# Altium footprint library DANCE_LIB_REV2.PcbLib: 146 footprints (part 7 of 10)
Each footprint in its own frame and in the unit in brackets; x right, y up, seen from the top. Pads: shape width x height; smd on the part's side, far side on the other; paste and mask are expansions set on the pad; w line width, h text height; cw(c..) or ccw(c..) is an arc to the next point about the centre after c.
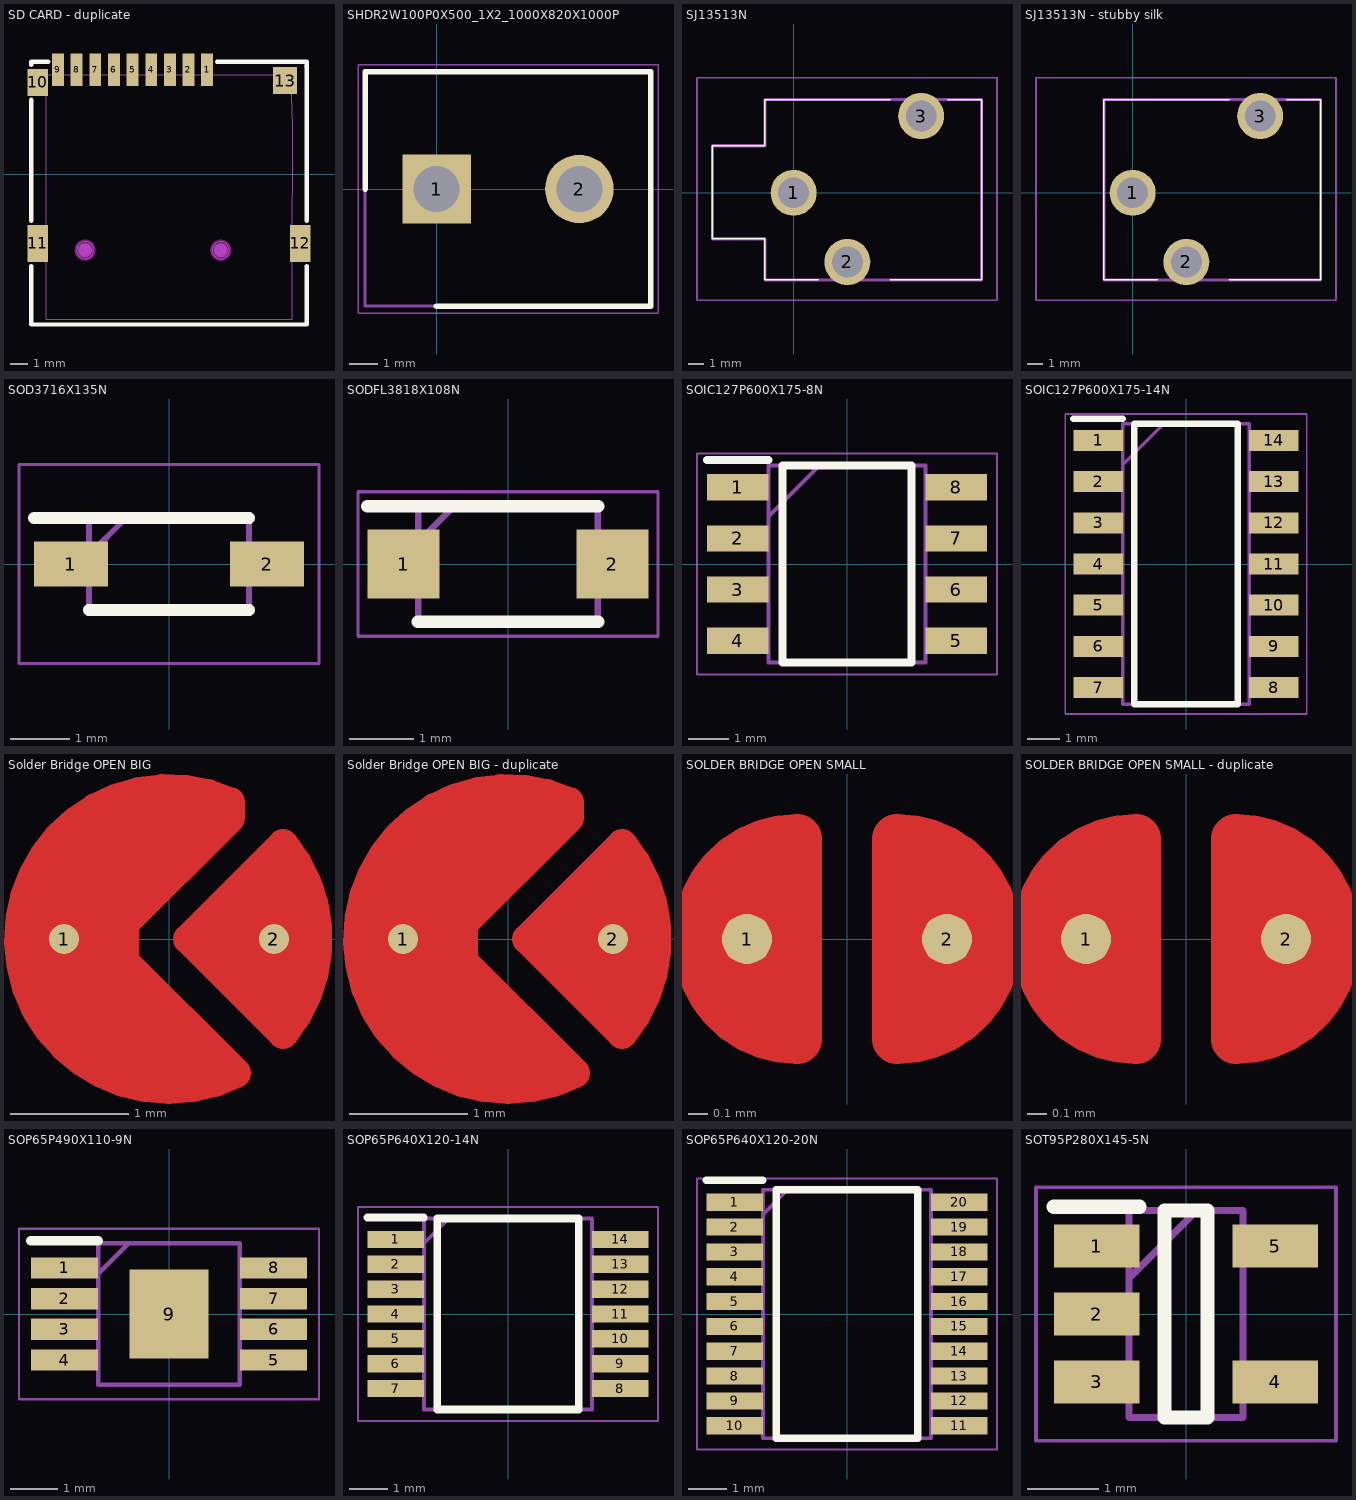
[diagram p6: the footprints below, top view; thin cyan lines are the x and y axes]

## SD CARD - duplicate [mm]
pads (13):
  rect 0.7x1.9 smd: 1(-9.058,6.163) 2(-10.158,6.163) 3(-11.258,6.163) 4(-12.358,6.163) 5(-13.458,6.163) 6(-14.558,6.163) 7(-15.658,6.163) 8(-16.758,6.163) 9(-17.858,6.163)
  rect 1.2x1.6 smd: 10(-19.058,5.413)
  rect 1.2x2.2 smd: 11(-19.058,-4.087) 12(-3.558,-4.087)
  rect 1.4x1.6 smd: 13(-4.458,5.513)
Top Overlay:
  lines w0.254: -19.436,-5.418 -19.436,-8.868 -3.18,-8.868 -3.18,-5.418 ; -19.436,-2.756 -19.436,4.382 ; -19.436,6.444 -19.436,6.626 -18.439,6.626 ; -8.477,6.626 -3.18,6.626 -3.18,-2.756
Keep-Out Layer:
  board cut-out: -15.758,-4.487 -15.759,-4.388 -15.836,-4.207 -15.977,-4.068 -16.159,-3.993 -16.357,-3.993 -16.539,-4.068 -16.679,-4.207 -16.757,-4.388 -16.758,-4.487 -16.757,-4.586 -16.679,-4.767 -16.539,-4.906 -16.356,-4.981 -16.159,-4.981 -15.977,-4.906 -15.836,-4.767 -15.759,-4.586
  board cut-out: -7.758,-4.489 -7.759,-4.391 -7.836,-4.209 -7.977,-4.071 -8.159,-3.996 -8.357,-3.996 -8.539,-4.071 -8.679,-4.209 -8.757,-4.391 -8.758,-4.49 -8.757,-4.588 -8.679,-4.77 -8.539,-4.908 -8.356,-4.983 -8.159,-4.983 -7.977,-4.908 -7.836,-4.77 -7.759,-4.588
Keep-Out Layer:
  circle w0.025: c-16.258,-4.487 r0.5
  circle w0.254: c-16.258,-4.487 r0.5
  circle w0.025: c-8.258,-4.489 r0.5
  circle w0.254: c-8.258,-4.489 r0.5
Mechanical 1:
  circle w0.025: c-16.258,-4.487 r0.5
  circle w0.025: c-8.258,-4.489 r0.5
Mechanical 6:
  circle w0.4: c-16.258,-4.487 r0.2
  circle w0.4: c-8.258,-4.489 r0.2
Mechanical 15:
  region: -3.198,6.349 -3.198,6.374 -3.233,6.409 -3.283,6.409 -3.318,6.374 -3.318,6.349 -3.318,6.325 -3.283,6.289 -3.233,6.289 -3.198,6.325
  region: -18.008,6.35 -17.708,6.35 -17.708,5.85 -18.008,5.85
  region: -16.908,6.35 -16.608,6.35 -16.608,5.85 -16.908,5.85
  region: -15.808,6.35 -15.508,6.35 -15.508,5.85 -15.808,5.85
  region: -14.708,6.35 -14.408,6.35 -14.408,5.85 -14.708,5.85
  region: -13.608,6.35 -13.308,6.35 -13.308,5.85 -13.608,5.85
  region: -12.508,6.35 -12.208,6.35 -12.208,5.85 -12.508,5.85
  region: -11.408,6.35 -11.108,6.35 -11.108,5.85 -11.408,5.85
  region: -10.308,6.35 -10.008,6.35 -10.008,5.85 -10.308,5.85
  region: -9.208,6.35 -8.908,6.35 -8.908,5.85 -9.208,5.85
  region: -19.394,-3.487 -18.544,-3.487 -18.544,-4.687 -19.394,-4.687
  region: -4.108,-3.462 -3.258,-3.462 -3.258,-4.662 -4.108,-4.662
  region: -19.394,5.913 -18.544,5.913 -18.544,4.913 -19.394,4.913
  region: -4.033,6.013 -4.033,5.013 -4.883,5.013 -4.883,6.013
  lines w0.051: -18.547,-8.561 -18.547,5.864 -11.208,5.864 -7.539,5.864 -4.047,5.864 -4.057,4.178 -4.041,2.366 -4.034,-1.234 -4.047,-8.561 -18.547,-8.561

## SHDR2W100P0X500_1X2_1000X820X1000P [mm]
pads (2):
  rect 2.4x2.4 hole 1.6: 1(0,0)
  round 2.4 hole 1.6: 2(5,0)
Top Overlay:
  lines w0.2: -2.5,0 -2.5,4.1 7.5,4.1 7.5,-4.1 0,-4.1
Mechanical 13:
  lines w0.1: -2.5,-4.1 7.5,-4.1 7.5,4.1 -2.5,4.1 -2.5,-4.1
Mechanical 15:
  lines w0.05: -2.75,-4.35 7.75,-4.35 7.75,4.35 -2.75,4.35 -2.75,-4.35
3D body "1546216-2.stp": height 9.91, standoff -3.59, extent -2.97,-4.1 7.63,4.1

## SJ13513N [mm]
pads (3):
  round 3 hole 2: 1(0,0) 2(3.5,-4.5) 3(8.3,5)
Top Overlay:
  lines w0.1: 1.606,-5.671 -1.867,-5.671 -1.867,-2.987 -5.288,-2.987 -5.288,3.065 -1.867,3.065 -1.867,6.065 6.29,6.065 ; 6.29,-5.671 12.237,-5.671 12.237,6.065 10.027,6.065
Mechanical 13:
  lines w0.2: -5.288,-2.987 -5.288,3.065 -1.867,3.065 -1.867,6.065 12.237,6.065 12.237,-5.671 -1.867,-5.671 -1.867,-2.987 -5.288,-2.987
Mechanical 15:
  lines w0.1: -6.288,-7 -6.288,7.5 13.237,7.5 13.237,-7 -6.288,-7
3D body "SJ1-3513N.stp": height 5.99, standoff -3.01, extent -5.28,-5.5 12.22,6

## SJ13513N - stubby silk [mm]
pads (3):
  round 3 hole 2: 1(0,0) 2(3.5,-4.5) 3(8.3,5)
Top Overlay:
  lines w0.1: 1.606,-5.671 -1.867,-5.671 -1.867,-2.987 -1.867,3.065 -1.867,6.065 6.29,6.065 ; 6.29,-5.671 12.237,-5.671 12.237,6.065 10.027,6.065
Mechanical 13:
  lines w0.2: -1.867,-5.671 12.237,-5.671 12.237,6.065 -1.867,6.065 -1.867,3.065 -1.867,-2.987 -1.867,-5.671
Mechanical 15:
  lines w0.1: -6.288,-7 -6.288,7.5 13.237,7.5 13.237,-7 -6.288,-7
3D body "SJ1-3513N.stp": height 5.99, standoff -3.01, extent -5.28,-5.5 12.22,6

## SOD3716X135N [mm]
pads (2):
  rect 1.25x0.75 smd: 1(-1.65,0) 2(1.65,0)
Top Overlay:
  lines w0.2: -2.275,0.775 1.35,0.775 ; -1.35,-0.775 1.35,-0.775
Mechanical 13:
  lines w0.1: -1.35,0.15 -0.725,0.775 ; -1.35,-0.775 -1.35,0.775 1.35,0.775 1.35,-0.775 -1.35,-0.775
Mechanical 15:
  lines w0.05: -2.525,-1.675 -2.525,1.675 2.525,1.675 2.525,-1.675 -2.525,-1.675
3D body "1N4148W-E3-08.stp": height 1.35, standoff 0, extent -1.85,-0.775 1.85,0.775

## SODFL3818X108N [mm]
pads (2):
  rect 1.12x1.08 smd: 1(-1.625,0) 2(1.625,0)
Top Overlay:
  lines w0.2: -2.185,0.9 1.4,0.9 ; -1.4,-0.9 1.4,-0.9
Mechanical 13:
  lines w0.1: -1.4,0.34 -0.84,0.9 ; -1.4,-0.9 -1.4,0.9 1.4,0.9 1.4,-0.9 -1.4,-0.9
Mechanical 15:
  lines w0.05: -2.335,-1.125 -2.335,1.125 2.335,1.125 2.335,-1.125 -2.335,-1.125
3D body "CMMSH1-40G_TR_PBFREE.stp": height 1.08, standoff 0, extent -1.875,-0.9 1.875,0.9

## SOIC127P600X175-8N [mm]
pads (8):
  rect 1.525x0.65 smd: 1(-2.712,1.905) 2(-2.712,0.635) 3(-2.712,-0.635) 4(-2.712,-1.905) 5(2.712,-1.905) 6(2.712,-0.635) 7(2.712,0.635) 8(2.712,1.905)
Top Overlay:
  lines w0.2: -3.475,2.58 -1.95,2.58 ; -1.6,-2.45 1.6,-2.45 1.6,2.45 -1.6,2.45 -1.6,-2.45
Mechanical 13:
  lines w0.1: -1.95,1.18 -0.68,2.45 ; -1.95,-2.45 1.95,-2.45 1.95,2.45 -1.95,2.45 -1.95,-2.45
Mechanical 15:
  lines w0.05: -3.725,-2.75 3.725,-2.75 3.725,2.75 -3.725,2.75 -3.725,-2.75
3D body "NE555DR.stp": height 1.75, standoff 0, extent -3,-2.45 3,2.45

## SOIC127P600X175-14N [mm]
pads (14):
  rect 1.525x0.65 smd: 1(-2.712,3.81) 2(-2.712,2.54) 3(-2.712,1.27) 4(-2.712,0) 5(-2.712,-1.27) 6(-2.712,-2.54) 7(-2.712,-3.81) 8(2.712,-3.81) 9(2.712,-2.54) 10(2.712,-1.27) 11(2.712,0) 12(2.712,1.27) 13(2.712,2.54) 14(2.712,3.81)
Top Overlay:
  lines w0.2: -3.475,4.485 -1.95,4.485 ; -1.6,-4.325 -1.6,4.325 1.6,4.325 1.6,-4.325 -1.6,-4.325
Mechanical 13:
  lines w0.1: -1.95,3.055 -0.68,4.325 ; -1.95,-4.325 -1.95,4.325 1.95,4.325 1.95,-4.325 -1.95,-4.325
Mechanical 15:
  lines w0.05: -3.725,-4.625 -3.725,4.625 3.725,4.625 3.725,-4.625 -3.725,-4.625
3D body "OPA4192IDR.stp": height 1.75, standoff 0, extent -3.013,-4.325 3.013,4.325

## Solder Bridge OPEN BIG [mil]
pads (2):
  round 10 smd mask+0: 1(-35,0) 2(35,0)
Top Layer:
  region: 20.31,45.69 -19.31,45.69 -49.92,15.08 -49.92,-19.06 -22.04,-46.94 16.85,-46.94 17.2,-47.3 19.51,-44.99 23.24,-44.99 23.24,-43.39 -18.84,-1.31 -18.84,0.29 -6.95,12.19
  region: 6.34,0 38.02,31.69 45,24.71 45,-5.35 48.74,-9.09 44.42,-13.41 44.42,-24.09 38.47,-30.04
  lines w10: 38.02,-31.69 6.34,0 38.02,31.69 ; 38.03,-31.69 ccw(c0,0) 38.03,31.69 ; -15,-7.36 -15,5 20.31,40.31 20.31,45.69 ccw(c0,0) 22.36,-44.72 -15,-7.36
Top Solder:
  circle w62: c0,0 r25

## Solder Bridge OPEN BIG - duplicate [mil]
pads (2):
  round 10 smd mask+0: 1(-35,0) 2(35,0)
Top Layer:
  region: 20.31,45.69 -19.31,45.69 -49.92,15.08 -49.92,-19.06 -22.04,-46.94 16.85,-46.94 17.2,-47.3 19.51,-44.99 23.24,-44.99 23.24,-43.39 -18.84,-1.31 -18.84,0.29 -6.95,12.19
  region: 6.34,0 38.02,31.69 45,24.71 45,-5.35 48.74,-9.09 44.42,-13.41 44.42,-24.09 38.47,-30.04
  lines w10: 38.02,-31.69 6.34,0 38.02,31.69 ; 38.03,-31.69 ccw(c0,0) 38.03,31.69 ; -15,-7.36 -15,5 20.31,40.31 20.31,45.69 ccw(c0,0) 22.36,-44.72 -15,-7.36
Top Solder:
  circle w62: c0,0 r25

## SOLDER BRIDGE OPEN SMALL [mil]
pads (2):
  round 10 smd mask+0: 1(-20,0) 2(20,0)
Top Layer:
  region: 10,20 10,-20 20,-20 30,-10 30,10 25,15
  region: -10,20 -10,-20 -15,-20 -30,-5 -30,10 -25,15
  lines w10: -10,-20 cw(c-10,0) -10,20 -10,-20 ; 10,-20 ccw(c10,0) 10,20 10,-20
Top Solder:
  circle w12: c-10,0 r20
  circle w12: c10,0 r20
  region: -10,20 -20,10 -25,10 -25,-15 -20,-20 10,-20 15,-15 25,-15 25,-5 30,0 30,10 20,20 10,20
  lines w10: 0,-20 0,20
  lines w14: -10,-20 10,-20 ; -10,20 10,20

## SOLDER BRIDGE OPEN SMALL - duplicate [mil]
pads (2):
  round 10 smd mask+0: 1(-20,0) 2(20,0)
Top Layer:
  region: -10,20 -10,-20 -15,-20 -30,-5 -30,10 -25,15
  region: 10,20 10,-20 20,-20 30,-10 30,10 25,15
  lines w10: -10,-20 cw(c-10,0) -10,20 -10,-20 ; 10,-20 ccw(c10,0) 10,20 10,-20
Top Solder:
  circle w12: c10,0 r20
  circle w12: c-10,0 r20
  region: -10,20 -20,10 -25,10 -25,-15 -20,-20 10,-20 15,-15 25,-15 25,-5 30,0 30,10 20,20 10,20
  lines w10: 0,-20 0,20
  lines w14: -10,-20 10,-20 ; -10,20 10,20

## SOP65P490X110-9N [mm]
pads (9):
  rect 1.425x0.45 smd: 1(-2.212,0.975) 2(-2.212,0.325) 3(-2.212,-0.325) 4(-2.212,-0.975) 5(2.212,-0.975) 6(2.212,-0.325) 7(2.212,0.325) 8(2.212,0.975)
  rect 1.68x1.88 smd: 9(0,0)
Top Overlay:
  lines w0.2: -2.925,1.55 -1.5,1.55
Mechanical 13:
  lines w0.1: -1.5,0.85 -0.85,1.5 ; -1.5,-1.5 -1.5,1.5 1.5,1.5 1.5,-1.5 -1.5,-1.5
Mechanical 15:
  lines w0.05: -3.175,-1.801 -3.175,1.801 3.175,1.801 3.175,-1.801 -3.175,-1.801
3D body "LT3580EMS8E#TRPBF.stp": height 1.1, standoff 0, extent -2.45,-1.5 2.45,1.5

## SOP65P640X120-14N [mm]
pads (14):
  rect 1.475x0.45 smd: 1(-2.938,1.95) 2(-2.938,1.3) 3(-2.938,0.65) 4(-2.938,0) 5(-2.938,-0.65) 6(-2.938,-1.3) 7(-2.938,-1.95) 8(2.938,-1.95) 9(2.938,-1.3) 10(2.938,-0.65) 11(2.938,0) 12(2.938,0.65) 13(2.938,1.3) 14(2.938,1.95)
Top Overlay:
  lines w0.2: -3.675,2.525 -2.2,2.525 ; -1.85,-2.5 -1.85,2.5 1.85,2.5 1.85,-2.5 -1.85,-2.5
Mechanical 13:
  lines w0.1: -2.2,1.85 -1.55,2.5 ; -2.2,-2.5 -2.2,2.5 2.2,2.5 2.2,-2.5 -2.2,-2.5
Mechanical 15:
  lines w0.05: -3.925,-2.8 -3.925,2.8 3.925,2.8 3.925,-2.8 -3.925,-2.8
3D body "ADA4177-4ARUZ-R7.stp": height 1.21, standoff 0.01, extent -3.2,-2.54 3.2,2.56

## SOP65P640X120-20N [mm]
pads (20):
  rect 1.475x0.45 smd: 1(-2.938,2.925) 2(-2.938,2.275) 3(-2.938,1.625) 4(-2.938,0.975) 5(-2.938,0.325) 6(-2.938,-0.325) 7(-2.938,-0.975) 8(-2.938,-1.625) 9(-2.938,-2.275) 10(-2.938,-2.925) 11(2.938,-2.925) 12(2.938,-2.275) 13(2.938,-1.625) 14(2.938,-0.975) 15(2.938,-0.325) 16(2.938,0.325) 17(2.938,0.975) 18(2.938,1.625) 19(2.938,2.275) 20(2.938,2.925)
Top Overlay:
  lines w0.2: -3.675,3.5 -2.2,3.5 ; -1.85,-3.25 -1.85,3.25 1.85,3.25 1.85,-3.25 -1.85,-3.25
Mechanical 13:
  lines w0.1: -2.2,2.6 -1.55,3.25 ; -2.2,-3.25 -2.2,3.25 2.2,3.25 2.2,-3.25 -2.2,-3.25
Mechanical 15:
  lines w0.05: -3.925,-3.55 -3.925,3.55 3.925,3.55 3.925,-3.55 -3.925,-3.55
3D body "TMUX1134PWR.stp": height 1.13, standoff 0, extent -3.2,-3.25 3.2,3.25

## SOT95P280X145-5N [mm]
pads (5):
  rect 1.2x0.6 smd: 1(-1.25,0.95) 2(-1.25,0) 3(-1.25,-0.95) 4(1.25,-0.95) 5(1.25,0.95)
Top Overlay:
  lines w0.2: -1.85,1.5 -0.65,1.5 ; -0.3,-1.45 -0.3,1.45 0.3,1.45 0.3,-1.45 -0.3,-1.45
Mechanical 13:
  lines w0.1: -0.8,0.5 0.15,1.45 ; -0.8,-1.45 -0.8,1.45 0.8,1.45 0.8,-1.45 -0.8,-1.45
Mechanical 15:
  lines w0.05: -2.1,-1.775 -2.1,1.775 2.1,1.775 2.1,-1.775 -2.1,-1.775
3D body "LP5907MFX-3.3_NOPB.stp": height 1.2, standoff 0, extent -1.4,-1.45 1.4,1.45